# EAGLE library part SFV16R-1STE1HLF (library FPC FFC Connectors)
CONN FFC BOTTOM 16POS 0.50MM R/A Manufacturer's datasheet <https://cdn.amphenol-icc.com/media/wysiwyg/files/drawing/10112793.pdf>
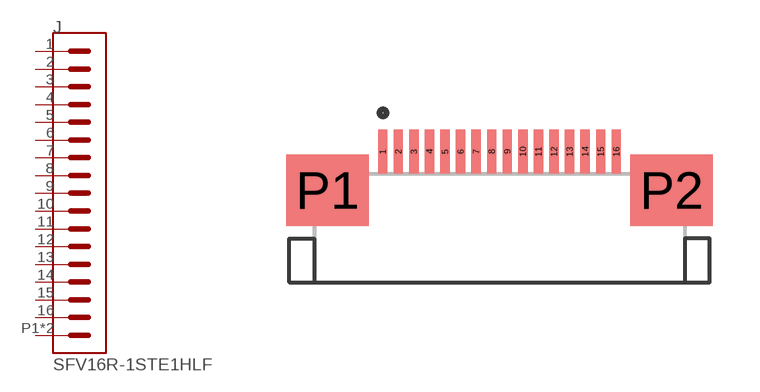
[diagram p9: symbol with the pads of SFV16R-1STE1HLF; footprint SFV16R-1STE1HLF]

Designator prefix J

## SFV16R-1STE1HLF (CREATED_BY: PCBLayout.com; DIGIKEY_PART_NUMBER: 609-4313-2-ND; MANUFACTURER: Amphenol ICC (FCI); MPN: SFV16R-1STE1HLF)  [SFV16R-1STE1HLF]
1  1  pas
2  2  pas
3  3  pas
4  4  pas
5  5  pas
6  6  pas
7  7  pas
8  8  pas
9  9  pas
10  10  pas
11  11  pas
12  12  pas
13  13  pas
14  14  pas
15  15  pas
16  16  pas
P1  SHIELD  pwr
P2  SHIELD  pwr

## Footprint SFV16R-1STE1HLF (pad centres in mm)
smd 0.3 x 1.4: 1 -3.75,0; 2 -3.25,0; 3 -2.75,0; 4 -2.25,0; 5 -1.75,0; 6 -1.25,0; 7 -0.75,0; 8 -0.25,0; 9 0.25,0; 10 0.75,0; 11 1.25,0; 12 1.75,0; 13 2.25,0; 14 2.75,0; 15 3.25,0; 16 3.75,0
smd 2.65 x 2.3: P1 -5.525,-1.25; P2 5.525,-1.25